# EAGLE library part S-1XXLDTL (library ictt-3U_v5)
MICRO REED RELAY w/ LED 1T 3U Cooporation
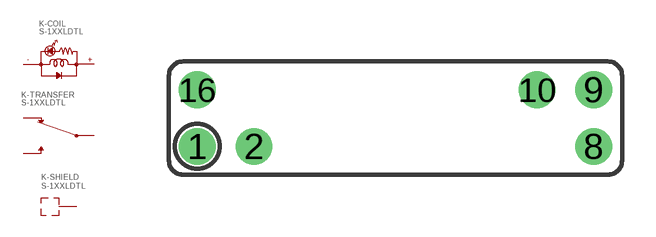
[diagram p0: symbol with the pads of S-1XXLDTL; footprint S-1XXLDTL]

Designator prefix K; gates -TRANSFER=1T -COIL=COIL-LED -SHIELD=SHIELD-1PIN

## S-1XXLDTL  [S-1XXLDTL]
1  -TRANSFER:OFF/ON
2  -SHIELD:P$1
8  -TRANSFER:IN
9  -COIL:+
10  -COIL:-
16  -TRANSFER:ON/OFF

## Footprint S-1XXLDTL (pad centres in mm)
drill 1.1 round: 1 -8.89,-1.27; 2 -6.35,-1.27; 8 8.89,-1.27; 9 8.89,1.27; 10 6.35,1.27; 16 -8.89,1.27